# Altium schematic symbol library DS1339A-uSOP8.SchLib: 1 symbol
Pins are listed as number, name and electrical type; pins without a type are passive.

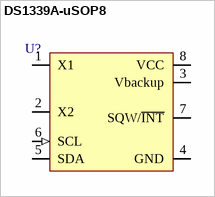
[diagram p0: symbol DS1339A-uSOP8]

## DS1339A-uSOP8
designator U?  (value not drawn)
pins: 1 X1, 2 X2, 3 Vbackup (power), 4 GND (power), 5 SDA (oc), 6 SCL (in), 7 SQW/~{INT} (power), 8 VCC (power)